# Altium footprint library TIDA-01576_ADS8686S_AFE.PcbLib: 71 footprints (part 2 of 5)
Each footprint in its own frame and in the unit in brackets; x right, y up, seen from the top. Pads: shape width x height; smd on the part's side, far side on the other; paste and mask are expansions set on the pad; w line width, h text height; cw(c..) or ccw(c..) is an arc to the next point about the centre after c.
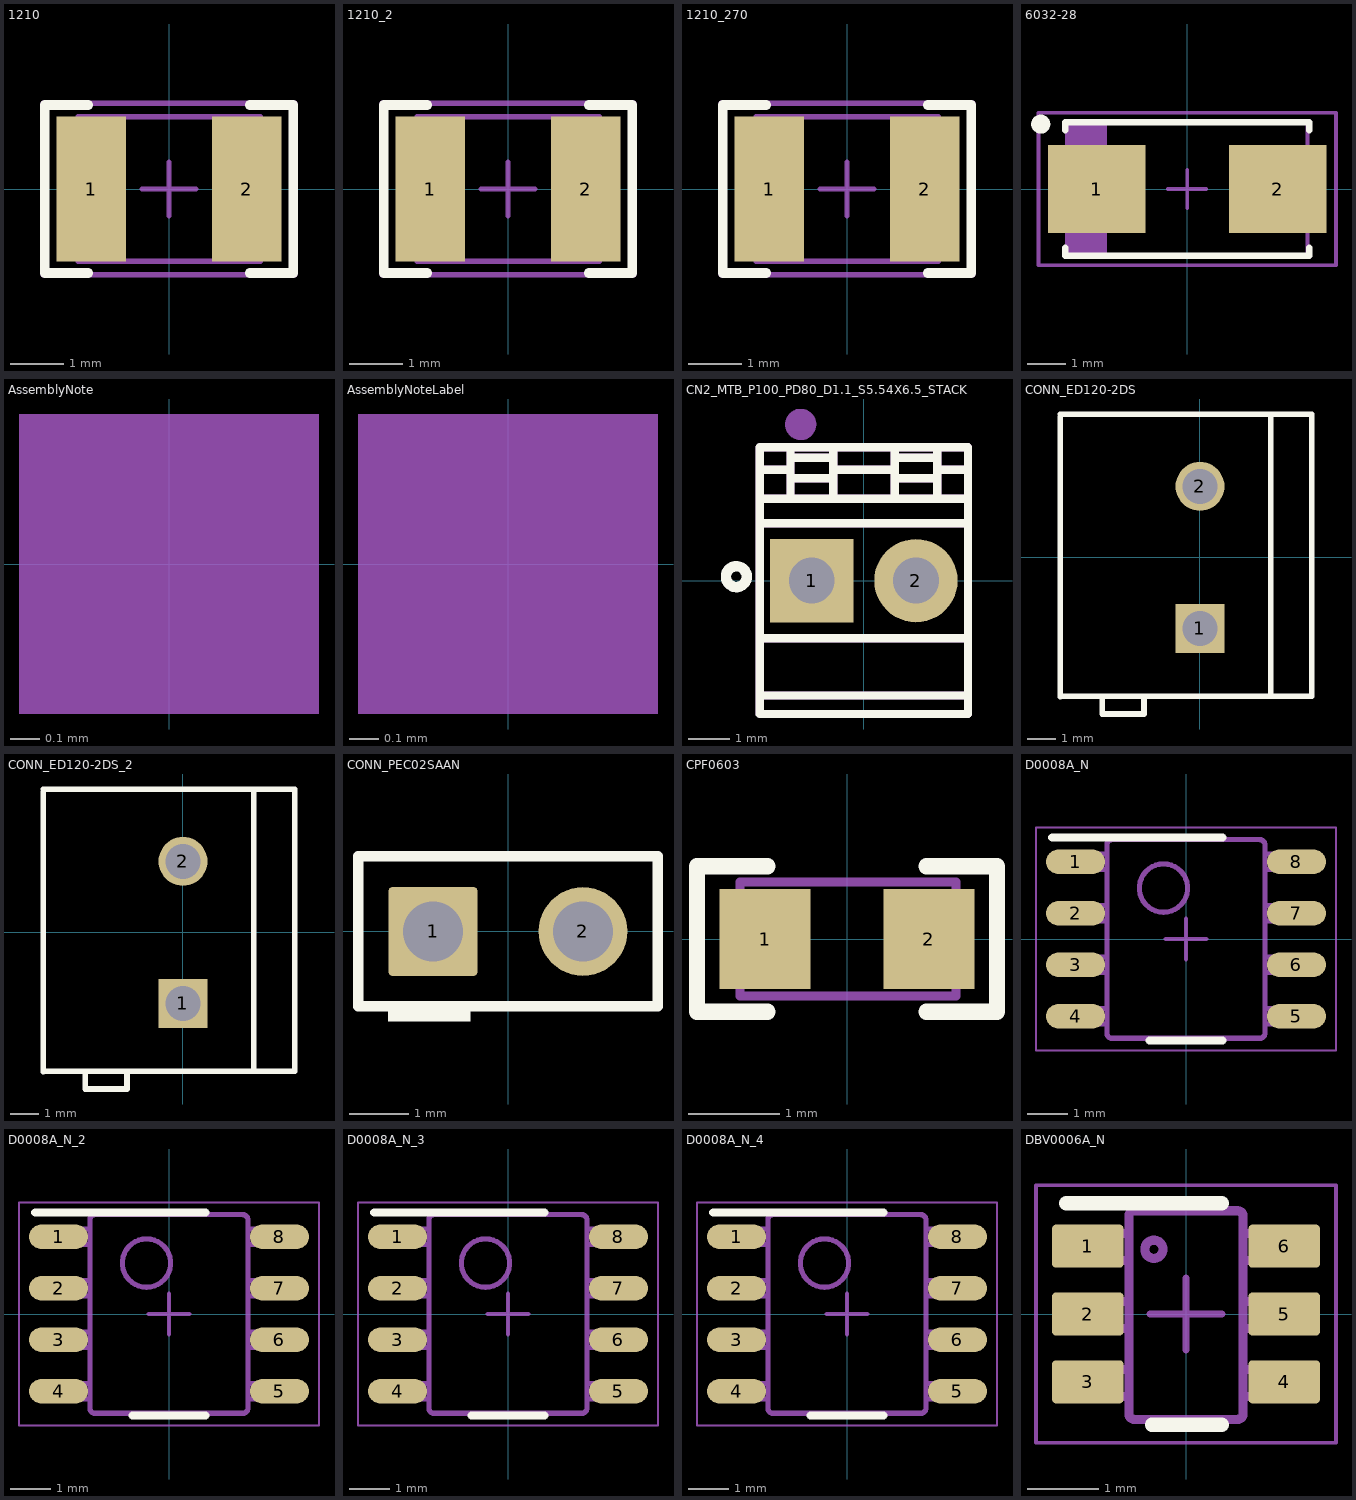
[diagram p1: the footprints below, top view; thin cyan lines are the x and y axes]

## 1210 [mm] "1210 from SM-752 data"
height 1.35
pads (2):
  rect 1.3x2.7 smd: 1(-1.45,0) 2(1.45,0)
Top Overlay:
  lines w0.178: -1.511,-1.568 -2.316,-1.568 -2.316,1.568 -1.511,1.568 ; 1.511,-1.568 2.316,-1.568 2.316,1.568 1.511,1.568
Mechanical 5:
  lines w0.1: -1.7,-1.35 -1.7,1.35 1.7,1.35 1.7,-1.35 -1.7,-1.35
  text ".Designator" at -0.864,-0.201 h0.51
Mechanical 13:
  lines w0.1: -1.2,-1.35 -1.2,1.35 ; 1.2,-1.35 1.2,1.35 ; -1.7,-1.35 1.7,-1.35 1.7,1.35 -1.7,1.35 -1.7,-1.35
Mechanical 15:
  lines w0.1: -0.5,0 0.5,0 ; 0,-0.5 0,0.5 ; -2.35,-1.6 2.35,-1.6 2.35,1.6 -2.35,1.6 -2.35,-1.6
3D body: height 1.35, standoff 0, extent 1.201,-1.349 1.699,1.349
3D body: height 1.35, standoff 0, extent -1.199,-1.349 1.199,1.349
3D body: height 1.35, standoff 0, extent -1.699,-1.349 -1.201,1.349

## 1210_2 [mm]
pads (2):
  rect 1.3x2.7 smd: 1(-1.45,0) 2(1.45,0)
Top Overlay:
  lines w0.178: -1.511,-1.568 -2.316,-1.568 -2.316,1.568 -1.511,1.568 ; 1.511,-1.568 2.316,-1.568 2.316,1.568 1.511,1.568
Mechanical 5:
  lines w0.1: -1.7,-1.35 -1.7,1.35 1.7,1.35 1.7,-1.35 -1.7,-1.35
  text ".Designator" at 0.684,0.104 h0.51
Mechanical 13:
  lines w0.1: -1.2,-1.35 -1.2,1.35 ; 1.2,-1.35 1.2,1.35 ; -1.7,-1.35 1.7,-1.35 1.7,1.35 -1.7,1.35 -1.7,-1.35
Mechanical 15:
  lines w0.1: -0.5,0 0.5,0 ; 0,-0.5 0,0.5 ; -2.35,-1.6 2.35,-1.6 2.35,1.6 -2.35,1.6 -2.35,-1.6
3D body: height 1.35, standoff 0, extent 1.201,-1.349 1.699,1.349
3D body: height 1.35, standoff 0, extent -1.199,-1.349 1.199,1.349
3D body: height 1.35, standoff 0, extent -1.699,-1.349 -1.201,1.349

## 1210_270 [mm] "1210"
height 2.7
pads (2):
  rect 1.3x2.7 smd: 1(-1.45,0) 2(1.45,0)
Top Overlay:
  lines w0.178: -1.511,-1.568 -2.316,-1.568 -2.316,1.568 -1.511,1.568 ; 1.511,-1.568 2.316,-1.568 2.316,1.568 1.511,1.568
Mechanical 5:
  lines w0.1: -1.7,-1.35 1.7,-1.35 1.7,1.35 -1.7,1.35 -1.7,-1.35
  text ".Designator" at -0.123,0.548 h0.51
Mechanical 13:
  lines w0.1: -1.2,-1.35 -1.2,1.35 ; 1.2,-1.35 1.2,1.35 ; -1.7,-1.35 -1.7,1.35 1.7,1.35 1.7,-1.35 -1.7,-1.35
Mechanical 15:
  lines w0.1: -0.5,0 0.5,0 ; 0,-0.5 0,0.5 ; -2.35,-1.6 -2.35,1.6 2.35,1.6 2.35,-1.6 -2.35,-1.6
3D body: height 2.7, standoff 0, extent -1.699,-1.349 -1.201,1.349
3D body: height 2.7, standoff 0, extent -1.199,-1.349 1.199,1.349
3D body: height 2.7, standoff 0, extent 1.201,-1.349 1.699,1.349

## 6032-28 [mm] "Medium Density IPC based on Vishay Sprague 293D datasheet."
height 2.8
pads (2):
  rect 2.55x2.3 smd: 1(-2.375,0) 2(2.375,0)
Top Overlay:
  circle w0.25: c-3.839,1.7 r0.125
  lines w0.178: -3.2,-1.539 -3.2,-1.75 3.2,-1.75 3.2,-1.539 ; -3.2,1.539 -3.2,1.75 3.2,1.75 3.2,1.539
Mechanical 5:
  rectangle: -3.15,-1.75 -2.15,1.75
  lines w0.1: -2.15,-1.75 -2.15,1.75 ; -3.15,-1.75 -3.15,1.75 3.15,1.75 3.15,-1.75 -3.15,-1.75
  text ".Designator" at 0.94,0.381 h0.51
Mechanical 15:
  lines w0.1: -0.5,0 0.5,0 ; 0,-0.5 0,0.5 ; -3.9,-2 3.9,-2 3.9,2 -3.9,2 -3.9,-2
3D body: height 2.8, standoff 0, extent -3.15,-1.75 3.15,1.75
3D body: height 2.8, standoff 2.8, extent -3.149,-1.749 -2.151,1.749

## AssemblyNote [mm] "Assembly Note"
Mechanical 5:
  rectangle: -0.508,-0.508 0.508,0.508
  text ".Comment" at 1.143,-0.508 h0.51
  text ".Designator" at -4.191,-0.508 h0.51

## AssemblyNoteLabel [mm] "Assembly Note for PCB Labels"
Mechanical 5:
  rectangle: -0.508,-0.508 0.508,0.508
  text "Install label in silkscreened box after final wash.  Text shall be 8 pt font.  Text shall be per the Label Table in the PDF schematic." at 1.143,-0.508 h0.51
  text ".Designator" at -4.191,-0.508 h0.51

## CN2_MTB_P100_PD80_D1.1_S5.54X6.5_STACK [mil]
height 118.11
pads (2):
  rect 80x80 / inner round 80 / far side rect 80x80 hole 44: 1(-50,0)
  round 80 hole 44: 2(50,0)
Top Overlay:
  circle w10: c-122.37,3.86 r10
  lines w8: -100,-110.24 100,-110.24 ; -100,-55.12 100,-55.12 ; -100,55.12 100,55.12 ; -100,78.74 100,78.74 ; -100,106.3 -70.87,106.3 ; -70.47,78.74 -70.47,127.95 ; -70.47,98.43 -31.5,98.43 ; -70.47,118.11 -31.5,118.11 ; -29.53,78.74 -29.53,127.95 ; -27.56,106.3 27.56,106.3 ; 29.53,78.74 29.53,127.95 ; 31.5,98.43 66.93,98.43 ; 31.5,118.11 66.93,118.11 ; 70.47,78.74 70.47,127.95 ; 70.87,106.3 100,106.3 ; -100,-127.95 -100,127.95 100,127.95 100,-127.95 -100,-127.95
Mechanical 5:
  circle w10: c-60.63,149.95 r10
  circle w10: c-60.63,149.95 r5
  lines w8: -100,-110.24 100,-110.24 ; -100,-55.12 100,-55.12 ; -100,55.12 100,55.12 ; -100,78.74 100,78.74 ; -100,106.3 -70.87,106.3 ; -70.47,78.74 -70.47,127.95 ; -70.47,98.43 -31.5,98.43 ; -70.47,118.11 -31.5,118.11 ; -29.53,78.74 -29.53,127.95 ; -27.56,106.3 27.56,106.3 ; 29.53,78.74 29.53,127.95 ; 31.5,98.43 66.93,98.43 ; 31.5,118.11 66.93,118.11 ; 70.47,78.74 70.47,127.95 ; 70.87,106.3 100,106.3 ; -100,-127.95 100,-127.95 100,127.95 -100,127.95 -100,-127.95
  text ".designator" at 11,12.86 h20

## CONN_ED120-2DS [mm] "ONSHORE"
height 13
pads (2):
  rect 1.75x1.75 hole 1.25: 1(0,-2.54)
  round 1.75 hole 1.25: 2(0,2.54)
Top Overlay:
  lines w0.2: -5,-4.985 -5,5.015 ; -5,-4.96 4,-4.96 ; -5,5.115 4,5.115 4,-4.885 ; -3.5,-4.96 -3.5,-5.6 -2,-5.6 -2,-4.96 ; 2.525,-4.95 2.525,5.05
Mechanical 5:
  lines w0.1: -3.5,-4.96 -3.5,-5.6 -2,-5.6 -2,-4.96
  lines w0.152: -5,-4.96 4,-4.96 ; -5,-4.885 -5,5.115 4,5.115 4,-4.885 ; 2.525,-4.875 2.525,5.125
  text ".Designator" at -0.493,0.646 h0.51
3D body: height 13, standoff 0, extent -5,-4.985 4,5.115
3D body: height 13.1, standoff -2.5, extent -0.496,-3.039 0.5,-2.041
3D body: height 13.1, standoff -2.5, extent -0.496,2.041 0.5,3.039
3D body: height 5.7, standoff 4.3, extent -0.85,1.846 4.15,3.24
3D body: height 5.7, standoff 4.3, extent -0.875,-3.204 4.125,-1.81
3D body: height 13, standoff 0, extent -3.5,-5.6 -2,-4.925

## CONN_ED120-2DS_2 [mm]
pads (2):
  rect 1.75x1.75 hole 1.25: 1(0,-2.54)
  round 1.75 hole 1.25: 2(0,2.54)
Top Overlay:
  lines w0.2: -5,-4.985 -5,5.015 ; -5,-4.96 4,-4.96 ; -5,5.115 4,5.115 4,-4.885 ; -3.5,-4.96 -3.5,-5.6 -2,-5.6 -2,-4.96 ; 2.525,-4.95 2.525,5.05
Mechanical 5:
  lines w0.1: -3.5,-4.96 -3.5,-5.6 -2,-5.6 -2,-4.96
  lines w0.152: -5,-4.96 4,-4.96 ; -5,-4.885 -5,5.115 4,5.115 4,-4.885 ; 2.525,-4.875 2.525,5.125
  text ".Designator" at -1.118,0.889 h0.51
3D body: height 13, standoff 0, extent -5,-4.985 4,5.115
3D body: height 13.1, standoff -2.5, extent -0.496,-3.039 0.5,-2.041
3D body: height 13.1, standoff -2.5, extent -0.496,2.041 0.5,3.039
3D body: height 5.7, standoff 4.3, extent -0.85,1.846 4.15,3.24
3D body: height 5.7, standoff 4.3, extent -0.875,-3.204 4.125,-1.81
3D body: height 13, standoff 0, extent -3.5,-5.6 -2,-4.925

## CONN_PEC02SAAN [mm] "SULLINS"
height 8.38
pads (2):
  rrect7% 1.5x1.5 hole 1.016: 1(-1.27,0)
  round 1.5 hole 1.016: 2(1.27,0)
Top Overlay:
  rectangle: -2.032,-1.524 -0.635,-1.27
  lines w0.178: -2.54,-1.27 2.54,-1.27 2.54,1.27 -2.54,1.27 -2.54,-1.27
Mechanical 5:
  lines w0.127: -2.54,-1.27 -2.54,1.27 2.54,1.27 2.54,-1.27 -2.54,-1.27
  text ".Designator" at 0.254,-0.66 h0.51
3D body: height 8.38, standoff -3.05, extent 0.966,-0.304 1.574,0.304
3D body: height 8.38, standoff -3.05, extent -1.574,-0.304 -0.966,0.304
3D body: height 2.54, standoff 0, extent -2.539,-1.269 2.539,1.269

## CPF0603 [mm] "TE Connectivity"
height 0.55
pads (2):
  rect 1x1.1 smd: 1(-0.9,0) 2(0.9,0)
Top Overlay:
  lines w0.18: -0.875,-0.8 -1.65,-0.8 -1.65,0.8 -0.875,0.8 ; 0.875,-0.8 1.65,-0.8 1.65,0.8 0.875,0.8
Mechanical 5:
  lines w0.1: -1.175,-0.625 -1.175,0.625 1.2,0.625 1.2,-0.625 -1.175,-0.625
  text ".Designator" at 0.646,0.178 h0.51
3D body: height 0.55, standoff 0, extent 0.501,-0.449 0.824,0.449
3D body: height 0.55, standoff 0, extent -0.499,-0.449 0.499,0.449
3D body: height 0.55, standoff 0, extent -0.824,-0.449 -0.501,0.449

## D0008A_N [mm] "SOIC, 8-Leads, Body 4.9x3.9mm, Pitch 1.27mm, IPC Medium Density"
height 1.75
pads (8):
  oval 1.45x0.6 smd: 1(-2.725,1.905) 2(-2.725,0.635) 3(-2.725,-0.635) 4(-2.725,-1.905) 5(2.725,-1.905) 6(2.725,-0.635) 7(2.725,0.635) 8(2.725,1.905)
Top Overlay:
  lines w0.2: -3.3,2.5 0.9,2.5 ; -0.9,-2.5 0.9,-2.5
Mechanical 5:
  lines w0.127: -2.375,-2.095 -2.375,-1.715 ; -2.375,-2.095 -2.589,-2.095 -3.002,-2.095 -3.002,-1.715 -2.589,-1.715 -2.375,-1.715 ; -2.375,-2.095 -1.995,-2.095 -1.952,-2.095 -1.952,-1.715 -1.995,-1.715 -2.375,-1.715 ; -2.375,-0.825 -2.375,-0.445 ; -2.375,-0.825 -2.589,-0.825 -3.002,-0.825 -3.002,-0.445 -2.589,-0.445 -2.375,-0.445 ; -2.375,-0.825 -1.995,-0.825 -1.952,-0.825 -1.952,-0.445 -1.995,-0.445 -2.375,-0.445 ; -2.375,0.445 -2.375,0.825 ; -2.375,0.445 -2.589,0.445 -3.002,0.445 -3.002,0.825 -2.589,0.825 -2.375,0.825 ; -2.375,0.445 -1.995,0.445 -1.952,0.445 -1.952,0.825 -1.995,0.825 -2.375,0.825 ; -2.375,1.715 -2.375,2.095 ; -2.375,1.715 -2.589,1.715 -3.002,1.715 -3.002,2.095 -2.589,2.095 -2.375,2.095 ; -2.375,1.715 -1.995,1.715 -1.952,1.715 -1.952,2.095 -1.995,2.095 -2.375,2.095 ; -0.332,-2.45 -0.182,-2.45 ; -0.332,-2.45 -0.182,-2.45 ; -0.332,-2.45 -1.825,-2.45 -1.826,-2.45 cw(c-1.825,-2.323) -1.952,-2.324 -1.952,-2.323 -1.952,2.323 -1.952,2.324 cw(c-1.825,2.323) -1.826,2.45 -1.825,2.45 -0.332,2.45 ; -0.332,2.45 -0.182,2.45 ; -0.332,2.45 -0.182,2.45 ; -0.182,-2.45 0.178,-2.45 ; -0.182,2.45 0.178,2.45 ; 0.178,-2.45 0.328,-2.45 ; 0.178,-2.45 0.328,-2.45 ; 0.178,2.45 0.328,2.45 ; 0.178,2.45 0.328,2.45 ; 0.328,-2.45 1.821,-2.45 1.822,-2.45 ccw(c1.821,-2.323) 1.948,-2.324 1.948,-2.323 1.948,2.323 1.948,2.324 ccw(c1.821,2.323) 1.822,2.45 1.821,2.45 0.328,2.45 ; 2.371,-2.095 2.371,-1.715 ; 2.371,-2.095 1.991,-2.095 1.948,-2.095 1.948,-1.715 1.991,-1.715 2.371,-1.715 ; 2.371,-2.095 2.585,-2.095 2.998,-2.095 2.998,-1.715 2.585,-1.715 2.371,-1.715 ; 2.371,-0.825 2.371,-0.445 ; 2.371,-0.825 1.991,-0.825 1.948,-0.825 1.948,-0.445 1.991,-0.445 2.371,-0.445 ; 2.371,-0.825 2.585,-0.825 2.998,-0.825 2.998,-0.445 2.585,-0.445 2.371,-0.445 ; 2.371,0.445 2.371,0.825 ; 2.371,0.445 1.991,0.445 1.948,0.445 1.948,0.825 1.991,0.825 2.371,0.825 ; 2.371,0.445 2.585,0.445 2.998,0.445 2.998,0.825 2.585,0.825 2.371,0.825 ; 2.371,1.715 2.371,2.095 ; 2.371,1.715 1.991,1.715 1.948,1.715 1.948,2.095 1.991,2.095 2.371,2.095 ; 2.371,1.715 2.585,1.715 2.998,1.715 2.998,2.095 2.585,2.095 2.371,2.095 ; -0.555,0.659 ccw(c-0.555,1.256) -0.555,1.853 ccw(c-0.555,1.256) -0.555,0.659
  text ".Designator" at 0.633,-0.3 h0.51
Mechanical 15:
  lines w0.05: -3.7,-2.75 -3.7,2.75 3.7,2.75 3.7,-2.75 -3.7,-2.75
  lines w0.1: -0.5,0 0.5,0 ; 0,-0.5 0,0.5
3D body "D0008A.stp": height 1.63, standoff 0, extent -3,-2.45 3,2.45

## D0008A_N_2 [mm]
pads (8):
  oval 1.45x0.6 smd: 1(-2.725,1.905) 2(-2.725,0.635) 3(-2.725,-0.635) 4(-2.725,-1.905) 5(2.725,-1.905) 6(2.725,-0.635) 7(2.725,0.635) 8(2.725,1.905)
Top Overlay:
  lines w0.2: -3.3,2.5 0.9,2.5 ; -0.9,-2.5 0.9,-2.5
Mechanical 5:
  lines w0.127: -2.375,-2.095 -2.375,-1.715 ; -2.375,-2.095 -2.589,-2.095 -3.002,-2.095 -3.002,-1.715 -2.589,-1.715 -2.375,-1.715 ; -2.375,-2.095 -1.995,-2.095 -1.952,-2.095 -1.952,-1.715 -1.995,-1.715 -2.375,-1.715 ; -2.375,-0.825 -2.375,-0.445 ; -2.375,-0.825 -2.589,-0.825 -3.002,-0.825 -3.002,-0.445 -2.589,-0.445 -2.375,-0.445 ; -2.375,-0.825 -1.995,-0.825 -1.952,-0.825 -1.952,-0.445 -1.995,-0.445 -2.375,-0.445 ; -2.375,0.445 -2.375,0.825 ; -2.375,0.445 -2.589,0.445 -3.002,0.445 -3.002,0.825 -2.589,0.825 -2.375,0.825 ; -2.375,0.445 -1.995,0.445 -1.952,0.445 -1.952,0.825 -1.995,0.825 -2.375,0.825 ; -2.375,1.715 -2.375,2.095 ; -2.375,1.715 -2.589,1.715 -3.002,1.715 -3.002,2.095 -2.589,2.095 -2.375,2.095 ; -2.375,1.715 -1.995,1.715 -1.952,1.715 -1.952,2.095 -1.995,2.095 -2.375,2.095 ; -0.332,-2.45 -0.182,-2.45 ; -0.332,-2.45 -0.182,-2.45 ; -0.332,-2.45 -1.825,-2.45 -1.826,-2.45 cw(c-1.825,-2.323) -1.952,-2.324 -1.952,-2.323 -1.952,2.323 -1.952,2.324 cw(c-1.825,2.323) -1.826,2.45 -1.825,2.45 -0.332,2.45 ; -0.332,2.45 -0.182,2.45 ; -0.332,2.45 -0.182,2.45 ; -0.182,-2.45 0.178,-2.45 ; -0.182,2.45 0.178,2.45 ; 0.178,-2.45 0.328,-2.45 ; 0.178,-2.45 0.328,-2.45 ; 0.178,2.45 0.328,2.45 ; 0.178,2.45 0.328,2.45 ; 0.328,-2.45 1.821,-2.45 1.822,-2.45 ccw(c1.821,-2.323) 1.948,-2.324 1.948,-2.323 1.948,2.323 1.948,2.324 ccw(c1.821,2.323) 1.822,2.45 1.821,2.45 0.328,2.45 ; 2.371,-2.095 2.371,-1.715 ; 2.371,-2.095 1.991,-2.095 1.948,-2.095 1.948,-1.715 1.991,-1.715 2.371,-1.715 ; 2.371,-2.095 2.585,-2.095 2.998,-2.095 2.998,-1.715 2.585,-1.715 2.371,-1.715 ; 2.371,-0.825 2.371,-0.445 ; 2.371,-0.825 1.991,-0.825 1.948,-0.825 1.948,-0.445 1.991,-0.445 2.371,-0.445 ; 2.371,-0.825 2.585,-0.825 2.998,-0.825 2.998,-0.445 2.585,-0.445 2.371,-0.445 ; 2.371,0.445 2.371,0.825 ; 2.371,0.445 1.991,0.445 1.948,0.445 1.948,0.825 1.991,0.825 2.371,0.825 ; 2.371,0.445 2.585,0.445 2.998,0.445 2.998,0.825 2.585,0.825 2.371,0.825 ; 2.371,1.715 2.371,2.095 ; 2.371,1.715 1.991,1.715 1.948,1.715 1.948,2.095 1.991,2.095 2.371,2.095 ; 2.371,1.715 2.585,1.715 2.998,1.715 2.998,2.095 2.585,2.095 2.371,2.095 ; -0.555,0.659 ccw(c-0.555,1.256) -0.555,1.853 ccw(c-0.555,1.256) -0.555,0.659
  text ".Designator" at -0.711,-0.589 h0.51
Mechanical 15:
  lines w0.05: -3.7,-2.75 -3.7,2.75 3.7,2.75 3.7,-2.75 -3.7,-2.75
  lines w0.1: -0.5,0 0.5,0 ; 0,-0.5 0,0.5
3D body "D0008A.stp": height 1.63, standoff 0, extent -3,-2.45 3,2.45

## D0008A_N_3 [mm]
pads (8):
  oval 1.45x0.6 smd: 1(-2.725,1.905) 2(-2.725,0.635) 3(-2.725,-0.635) 4(-2.725,-1.905) 5(2.725,-1.905) 6(2.725,-0.635) 7(2.725,0.635) 8(2.725,1.905)
Top Overlay:
  lines w0.2: -3.3,2.5 0.9,2.5 ; -0.9,-2.5 0.9,-2.5
Mechanical 5:
  lines w0.127: -2.375,-2.095 -2.375,-1.715 ; -2.375,-2.095 -2.589,-2.095 -3.002,-2.095 -3.002,-1.715 -2.589,-1.715 -2.375,-1.715 ; -2.375,-2.095 -1.995,-2.095 -1.952,-2.095 -1.952,-1.715 -1.995,-1.715 -2.375,-1.715 ; -2.375,-0.825 -2.375,-0.445 ; -2.375,-0.825 -2.589,-0.825 -3.002,-0.825 -3.002,-0.445 -2.589,-0.445 -2.375,-0.445 ; -2.375,-0.825 -1.995,-0.825 -1.952,-0.825 -1.952,-0.445 -1.995,-0.445 -2.375,-0.445 ; -2.375,0.445 -2.375,0.825 ; -2.375,0.445 -2.589,0.445 -3.002,0.445 -3.002,0.825 -2.589,0.825 -2.375,0.825 ; -2.375,0.445 -1.995,0.445 -1.952,0.445 -1.952,0.825 -1.995,0.825 -2.375,0.825 ; -2.375,1.715 -2.375,2.095 ; -2.375,1.715 -2.589,1.715 -3.002,1.715 -3.002,2.095 -2.589,2.095 -2.375,2.095 ; -2.375,1.715 -1.995,1.715 -1.952,1.715 -1.952,2.095 -1.995,2.095 -2.375,2.095 ; -0.332,-2.45 -0.182,-2.45 ; -0.332,-2.45 -0.182,-2.45 ; -0.332,-2.45 -1.825,-2.45 -1.826,-2.45 cw(c-1.825,-2.323) -1.952,-2.324 -1.952,-2.323 -1.952,2.323 -1.952,2.324 cw(c-1.825,2.323) -1.826,2.45 -1.825,2.45 -0.332,2.45 ; -0.332,2.45 -0.182,2.45 ; -0.332,2.45 -0.182,2.45 ; -0.182,-2.45 0.178,-2.45 ; -0.182,2.45 0.178,2.45 ; 0.178,-2.45 0.328,-2.45 ; 0.178,-2.45 0.328,-2.45 ; 0.178,2.45 0.328,2.45 ; 0.178,2.45 0.328,2.45 ; 0.328,-2.45 1.821,-2.45 1.822,-2.45 ccw(c1.821,-2.323) 1.948,-2.324 1.948,-2.323 1.948,2.323 1.948,2.324 ccw(c1.821,2.323) 1.822,2.45 1.821,2.45 0.328,2.45 ; 2.371,-2.095 2.371,-1.715 ; 2.371,-2.095 1.991,-2.095 1.948,-2.095 1.948,-1.715 1.991,-1.715 2.371,-1.715 ; 2.371,-2.095 2.585,-2.095 2.998,-2.095 2.998,-1.715 2.585,-1.715 2.371,-1.715 ; 2.371,-0.825 2.371,-0.445 ; 2.371,-0.825 1.991,-0.825 1.948,-0.825 1.948,-0.445 1.991,-0.445 2.371,-0.445 ; 2.371,-0.825 2.585,-0.825 2.998,-0.825 2.998,-0.445 2.585,-0.445 2.371,-0.445 ; 2.371,0.445 2.371,0.825 ; 2.371,0.445 1.991,0.445 1.948,0.445 1.948,0.825 1.991,0.825 2.371,0.825 ; 2.371,0.445 2.585,0.445 2.998,0.445 2.998,0.825 2.585,0.825 2.371,0.825 ; 2.371,1.715 2.371,2.095 ; 2.371,1.715 1.991,1.715 1.948,1.715 1.948,2.095 1.991,2.095 2.371,2.095 ; 2.371,1.715 2.585,1.715 2.998,1.715 2.998,2.095 2.585,2.095 2.371,2.095 ; -0.555,0.659 ccw(c-0.555,1.256) -0.555,1.853 ccw(c-0.555,1.256) -0.555,0.659
  text ".Designator" at 0.328,-1.064 h0.51
Mechanical 15:
  lines w0.05: -3.7,-2.75 -3.7,2.75 3.7,2.75 3.7,-2.75 -3.7,-2.75
  lines w0.1: -0.5,0 0.5,0 ; 0,-0.5 0,0.5
3D body "D0008A.stp": height 1.63, standoff 0, extent -3,-2.45 3,2.45

## D0008A_N_4 [mm]
pads (8):
  oval 1.45x0.6 smd: 1(-2.725,1.905) 2(-2.725,0.635) 3(-2.725,-0.635) 4(-2.725,-1.905) 5(2.725,-1.905) 6(2.725,-0.635) 7(2.725,0.635) 8(2.725,1.905)
Top Overlay:
  lines w0.2: -3.3,2.5 0.9,2.5 ; -0.9,-2.5 0.9,-2.5
Mechanical 5:
  lines w0.127: -2.375,-2.095 -2.375,-1.715 ; -2.375,-2.095 -2.589,-2.095 -3.002,-2.095 -3.002,-1.715 -2.589,-1.715 -2.375,-1.715 ; -2.375,-2.095 -1.995,-2.095 -1.952,-2.095 -1.952,-1.715 -1.995,-1.715 -2.375,-1.715 ; -2.375,-0.825 -2.375,-0.445 ; -2.375,-0.825 -2.589,-0.825 -3.002,-0.825 -3.002,-0.445 -2.589,-0.445 -2.375,-0.445 ; -2.375,-0.825 -1.995,-0.825 -1.952,-0.825 -1.952,-0.445 -1.995,-0.445 -2.375,-0.445 ; -2.375,0.445 -2.375,0.825 ; -2.375,0.445 -2.589,0.445 -3.002,0.445 -3.002,0.825 -2.589,0.825 -2.375,0.825 ; -2.375,0.445 -1.995,0.445 -1.952,0.445 -1.952,0.825 -1.995,0.825 -2.375,0.825 ; -2.375,1.715 -2.375,2.095 ; -2.375,1.715 -2.589,1.715 -3.002,1.715 -3.002,2.095 -2.589,2.095 -2.375,2.095 ; -2.375,1.715 -1.995,1.715 -1.952,1.715 -1.952,2.095 -1.995,2.095 -2.375,2.095 ; -0.332,-2.45 -0.182,-2.45 ; -0.332,-2.45 -0.182,-2.45 ; -0.332,-2.45 -1.825,-2.45 -1.826,-2.45 cw(c-1.825,-2.323) -1.952,-2.324 -1.952,-2.323 -1.952,2.323 -1.952,2.324 cw(c-1.825,2.323) -1.826,2.45 -1.825,2.45 -0.332,2.45 ; -0.332,2.45 -0.182,2.45 ; -0.332,2.45 -0.182,2.45 ; -0.182,-2.45 0.178,-2.45 ; -0.182,2.45 0.178,2.45 ; 0.178,-2.45 0.328,-2.45 ; 0.178,-2.45 0.328,-2.45 ; 0.178,2.45 0.328,2.45 ; 0.178,2.45 0.328,2.45 ; 0.328,-2.45 1.821,-2.45 1.822,-2.45 ccw(c1.821,-2.323) 1.948,-2.324 1.948,-2.323 1.948,2.323 1.948,2.324 ccw(c1.821,2.323) 1.822,2.45 1.821,2.45 0.328,2.45 ; 2.371,-2.095 2.371,-1.715 ; 2.371,-2.095 1.991,-2.095 1.948,-2.095 1.948,-1.715 1.991,-1.715 2.371,-1.715 ; 2.371,-2.095 2.585,-2.095 2.998,-2.095 2.998,-1.715 2.585,-1.715 2.371,-1.715 ; 2.371,-0.825 2.371,-0.445 ; 2.371,-0.825 1.991,-0.825 1.948,-0.825 1.948,-0.445 1.991,-0.445 2.371,-0.445 ; 2.371,-0.825 2.585,-0.825 2.998,-0.825 2.998,-0.445 2.585,-0.445 2.371,-0.445 ; 2.371,0.445 2.371,0.825 ; 2.371,0.445 1.991,0.445 1.948,0.445 1.948,0.825 1.991,0.825 2.371,0.825 ; 2.371,0.445 2.585,0.445 2.998,0.445 2.998,0.825 2.585,0.825 2.371,0.825 ; 2.371,1.715 2.371,2.095 ; 2.371,1.715 1.991,1.715 1.948,1.715 1.948,2.095 1.991,2.095 2.371,2.095 ; 2.371,1.715 2.585,1.715 2.998,1.715 2.998,2.095 2.585,2.095 2.371,2.095 ; -0.555,0.659 ccw(c-0.555,1.256) -0.555,1.853 ccw(c-0.555,1.256) -0.555,0.659
  text ".Designator" at 0.727,-0.115 h0.51
Mechanical 15:
  lines w0.05: -3.7,-2.75 -3.7,2.75 3.7,2.75 3.7,-2.75 -3.7,-2.75
  lines w0.1: -0.5,0 0.5,0 ; 0,-0.5 0,0.5
3D body "D0008A.stp": height 1.63, standoff 0, extent -3,-2.45 3,2.45

## DBV0006A_N [mm] "SOT23, 6-Leads, Body 2.9x1.6mm, Pitch 0.95mm, Lead Span 2.8mm, IPC Medium Density"
height 1.45
pads (6):
  rrect17% 1x0.6 smd: 1(-1.375,0.95) 2(-1.375,0) 3(-1.375,-0.95) 4(1.375,-0.95) 5(1.375,0) 6(1.375,0.95)
Top Overlay:
  lines w0.2: -1.675,1.55 0.5,1.55 ; -0.475,-1.55 0.5,-1.55
Mechanical 5:
  lines w0.127: 0.724,-1.475 ccw(c0.723,-1.399) 0.8,-1.399 0.8,1.37 ccw(c0.723,1.37) 0.724,1.446 ; 0.723,-1.475 -0.724,-1.475 -0.725,-1.475 cw(c-0.724,-1.399) -0.801,-1.399 -0.801,1.37 cw(c-0.724,1.37) -0.725,1.446 -0.724,1.446 0.723,1.446 ; 0.723,-1.475 0.724,-1.475 ; 0.723,1.446 0.724,1.446 ; -1.423,-1.154 -1.423,-0.78 -1.206,-0.78 -1.113,-0.78 -1.081,-0.78 -0.828,-0.78 -0.801,-0.78 -0.801,-1.154 -0.828,-1.154 -1.081,-1.154 -1.113,-1.154 -1.206,-1.154 -1.423,-1.154 ; -1.423,-0.202 -1.423,0.173 -1.206,0.173 -1.113,0.173 -1.081,0.173 -0.828,0.173 -0.801,0.173 -0.801,-0.202 -0.828,-0.202 -1.081,-0.202 -1.113,-0.202 -1.206,-0.202 -1.423,-0.202 ; -1.423,0.751 -1.423,1.125 -1.206,1.125 -1.113,1.125 -1.081,1.125 -0.828,1.125 -0.801,1.125 -0.801,0.751 -0.828,0.751 -1.081,0.751 -1.113,0.751 -1.206,0.751 -1.423,0.751 ; -0.577,0.906 ccw(c-0.45,0.906) -0.323,0.906 ccw(c-0.45,0.906) -0.577,0.906 ; 0.8,-1.154 0.8,-0.78 0.827,-0.78 1.08,-0.78 1.112,-0.78 1.205,-0.78 1.422,-0.78 1.422,-1.154 1.205,-1.154 1.112,-1.154 1.08,-1.154 0.827,-1.154 0.8,-1.154 ; 0.8,-0.202 0.8,0.173 0.827,0.173 1.08,0.173 1.112,0.173 1.205,0.173 1.422,0.173 1.422,-0.202 1.205,-0.202 1.112,-0.202 1.08,-0.202 0.827,-0.202 0.8,-0.202 ; 0.8,0.751 0.8,1.125 0.827,1.125 1.08,1.125 1.112,1.125 1.205,1.125 1.422,1.125 1.422,0.751 1.205,0.751 1.112,0.751 1.08,0.751 0.827,0.751 0.8,0.751
  text ".Designator" at -0.189,0.26 h0.51
Mechanical 15:
  lines w0.05: -2.1,-1.8 -2.1,1.8 2.1,1.8 2.1,-1.8 -2.1,-1.8
  lines w0.1: -0.5,0 0.5,0 ; 0,-0.5 0,0.5
3D body "DBV0006A.stp": height 1.12, standoff 0, extent -1.422,-1.461 1.423,1.46